# Altium schematic symbol library eUSR_SchLibrary - Resistor.SchLib: 2 symbols
Pins are listed as number, name and electrical type; pins without a type are passive.

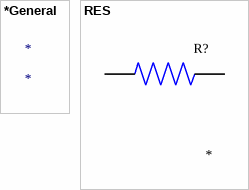
[diagram p0: symbols *General to RES]

## *General
designator *

## RES
designator R?
Datasheet: *; Distributor Link: *
pins: 1, 2